# Altium integrated library Analog Devices Data Converters Digital-to-Analog Converters.IntLib: 2231 symbols (part 163 of 181)
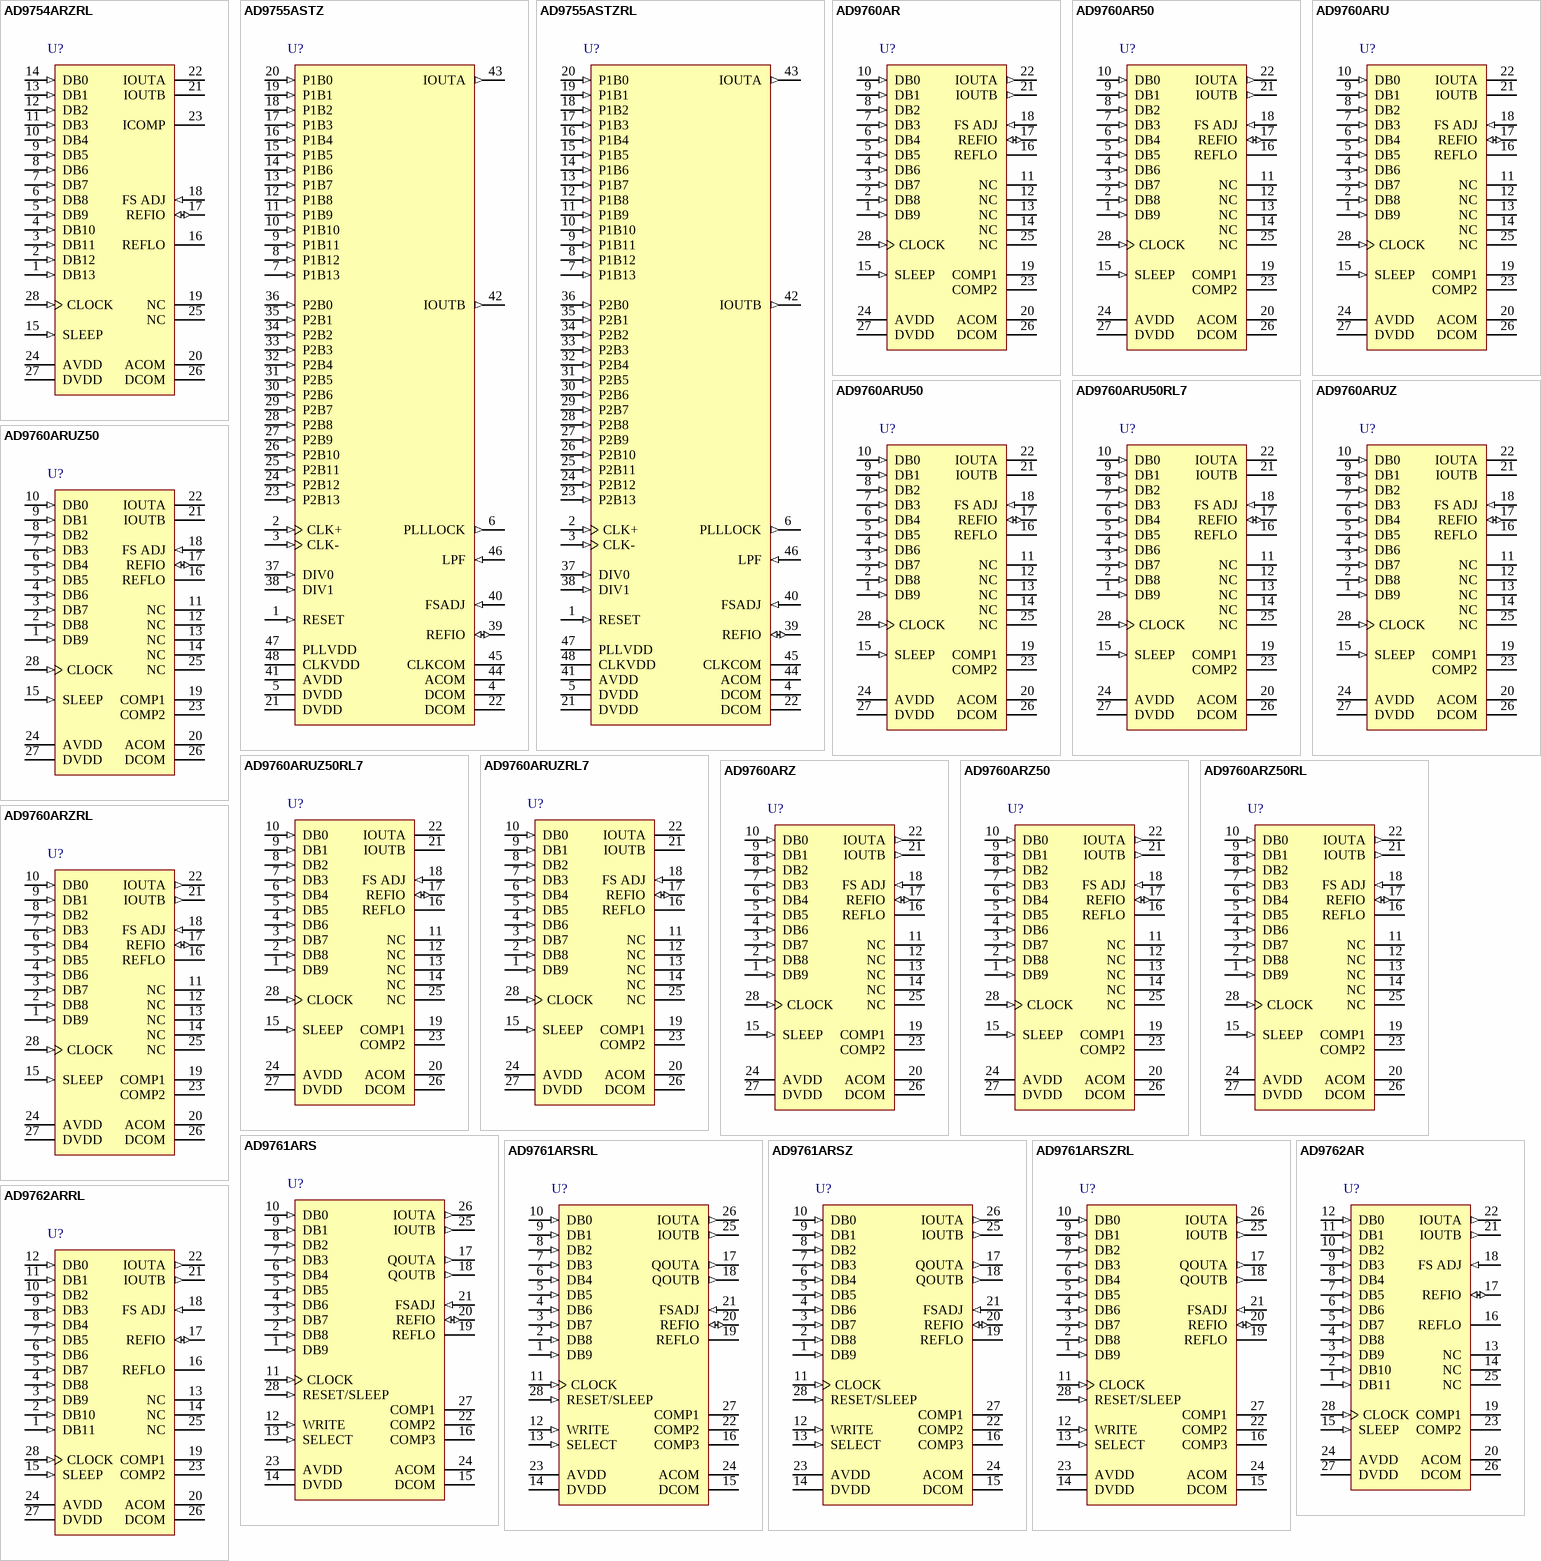
[diagram p276: symbols AD9754ARZRL to AD9762ARRL]

## AD9760ARUZ50RL7
designator U?
Single 10-Bit TxDAC, 125 Msps, -40 to +85 degC, RU-28, Pb-Free, Reel; Generic Part Number: AD9760; Manufacturer: Analog Devices; PartNumber: AD9760ARUZ50RL7; # DAC Outputs: 1; Max V+: 5.5V; Op Pwr Diss: 175mW; Resolution (Bits): 10; Settling Time: 35ns; Single Supply: Yes; DatasheetVersion: Rev.B; PackageVersion: 2005; PackageReference: RU-28; PackageDescription: 28-Lead Thin Shrink Small Outline Package [TSSOP]; Supplier 1: Digi-Key; Supplier Part Number 1: AD9760ARUZ50RL7-ND; Supplier 2: Mouser; Supplier Part Number 2: 584-AD9760ARUZ50R7; Packing: Reel; RoHS: Y; Mounting Technology: Surface Mount; Code_JEDEC: MO-153-AE; ComponentLink1Description: Manufacturer URL; ComponentLink1URL: http://www.analog.com/en/index.html; ComponentLink2Description: Datasheet; ComponentLink2URL: http://www.analog.com/static/imported-files/data_sheets/AD9760.pdf; ComponentLink3Description: Package Specification; ComponentLink3URL: http://www.analog.com/static/imported-files/packages/249854663RU_28.pdf; ComponentLink4Description: Product URL; ComponentLink4URL: http://www.analog.com/en/digital-to-analog-converters/da-converters/ad9760/products/product.html
footprint RU-28_N (TSOP, 28-Leads, Body 9.7x4.4mm, Pitch 0.65mm, IPC Medium Density)
footprint RU-28_L (TSOP, 28-Leads, Body 9.7x4.4mm, Pitch 0.65mm, IPC High Density)
footprint RU-28_M (TSOP, 28-Leads, Body 9.7x4.4mm, Pitch 0.65mm, IPC Low Density)
pins: 1 DB9 (in) "Most Significant Data Bit (MSB).", 2 DB8 (in) "Data Bit 8", 3 DB7 (in) "Data Bit 7", 4 DB6 (in) "Data Bit 6", 5 DB5 (in) "Data Bit 5", 6 DB4 (in) "Data Bit 4", 7 DB3 (in) "Data Bit 3", 8 DB2 (in) "Data Bit 2", 9 DB1 (in) "Data Bit 1", 10 DB0 (in) "Least Significant Data Bit (LSB).", 11 NC "No Internal Connection.", 12 NC "No Internal Connection.", 13 NC "No Internal Connection.", 14 NC "No Internal Connection.", 15 SLEEP (in) "Power-Down Control Input. Active High. Contains active pull-down circuit, thus may be left unterminated if not used.", 16 REFLO "Reference Ground when Internal 1.2 V Reference Used. Connect to AVDD to disable internal reference.", 17 REFIO (io) "Reference Input/Output. Serves as reference input when internal reference disabled (i.e., Tie REFLO to AVDD). Serves as 1.2 V reference output when internal reference activated (i.e., Tie REFLO to ACOM). Requires 0.1 uF (See Datasheet)", 18 FS ADJ (in) "Full-Scale Current Output Adjust.", 19 COMP1 "Bandwidth/Noise Reduction Node. Add 0.1 uF to AVDD for optimum performance.", 20 ACOM (power) "Analog Common.", 21 IOUTB "Complementary DAC Current Output. Full-scale current when all data bits are 0s.", 22 IOUTA "DAC Current Output. Full-scale current when all data bits are 1s.", 23 COMP2 "Internal Bias Node for Switch Driver Circuitry. Decouple to ACOM with 0.1 uF capacitor.", 24 AVDD (power) "Analog Supply Voltage (+2.7 V to +5.5 V).", 25 NC "No Internal Connection.", 26 DCOM (power) "Digital Common.", 27 DVDD (power) "Digital Supply Voltage (+2.7 V to +5.5 V).", 28 CLOCK (in) "Clock Input. Data latched on positive edge of clock."

## AD9760ARUZRL7
designator U?
Single 10-Bit TxDAC, 125 Msps, -40 to +85 degC, RU-28, Pb-Free, Reel; Generic Part Number: AD9760; Manufacturer: Analog Devices; PartNumber: AD9760ARUZRL7; # DAC Outputs: 1; Max V+: 5.5V; Op Pwr Diss: 175mW; Resolution (Bits): 10; Settling Time: 35ns; Single Supply: Yes; DatasheetVersion: Rev.B; PackageVersion: 2005; PackageReference: RU-28; PackageDescription: 28-Lead Thin Shrink Small Outline Package [TSSOP]; Supplier 1: Digi-Key; Supplier Part Number 1: AD9760ARUZRL7-ND; Supplier 2: Mouser; Supplier Part Number 2: 584-AD9760ARUZR7; Packing: Reel; RoHS: Y; Mounting Technology: Surface Mount; Code_JEDEC: MO-153-AE; ComponentLink1Description: Manufacturer URL; ComponentLink1URL: http://www.analog.com/en/index.html; ComponentLink2Description: Datasheet; ComponentLink2URL: http://www.analog.com/static/imported-files/data_sheets/AD9760.pdf; ComponentLink3Description: Package Specification; ComponentLink3URL: http://www.analog.com/static/imported-files/packages/249854663RU_28.pdf; ComponentLink4Description: Product URL; ComponentLink4URL: http://www.analog.com/en/digital-to-analog-converters/da-converters/ad9760/products/product.html
footprint RU-28_N (TSOP, 28-Leads, Body 9.7x4.4mm, Pitch 0.65mm, IPC Medium Density)
footprint RU-28_L (TSOP, 28-Leads, Body 9.7x4.4mm, Pitch 0.65mm, IPC High Density)
footprint RU-28_M (TSOP, 28-Leads, Body 9.7x4.4mm, Pitch 0.65mm, IPC Low Density)
pins: 1 DB9 (in) "Most Significant Data Bit (MSB).", 2 DB8 (in) "Data Bit 8", 3 DB7 (in) "Data Bit 7", 4 DB6 (in) "Data Bit 6", 5 DB5 (in) "Data Bit 5", 6 DB4 (in) "Data Bit 4", 7 DB3 (in) "Data Bit 3", 8 DB2 (in) "Data Bit 2", 9 DB1 (in) "Data Bit 1", 10 DB0 (in) "Least Significant Data Bit (LSB).", 11 NC "No Internal Connection.", 12 NC "No Internal Connection.", 13 NC "No Internal Connection.", 14 NC "No Internal Connection.", 15 SLEEP (in) "Power-Down Control Input. Active High. Contains active pull-down circuit, thus may be left unterminated if not used.", 16 REFLO "Reference Ground when Internal 1.2 V Reference Used. Connect to AVDD to disable internal reference.", 17 REFIO (io) "Reference Input/Output. Serves as reference input when internal reference disabled (i.e., Tie REFLO to AVDD). Serves as 1.2 V reference output when internal reference activated (i.e., Tie REFLO to ACOM). Requires 0.1 uF (See Datasheet)", 18 FS ADJ (in) "Full-Scale Current Output Adjust.", 19 COMP1 "Bandwidth/Noise Reduction Node. Add 0.1 uF to AVDD for optimum performance.", 20 ACOM (power) "Analog Common.", 21 IOUTB "Complementary DAC Current Output. Full-scale current when all data bits are 0s.", 22 IOUTA "DAC Current Output. Full-scale current when all data bits are 1s.", 23 COMP2 "Internal Bias Node for Switch Driver Circuitry. Decouple to ACOM with 0.1 uF capacitor.", 24 AVDD (power) "Analog Supply Voltage (+2.7 V to +5.5 V).", 25 NC "No Internal Connection.", 26 DCOM (power) "Digital Common.", 27 DVDD (power) "Digital Supply Voltage (+2.7 V to +5.5 V).", 28 CLOCK (in) "Clock Input. Data latched on positive edge of clock."

## AD9760ARZ
designator U?
Single 10-Bit TxDAC, 125 Msps, -40 to +85 degC, RW-28, Pb-Free, Tube; Generic Part Number: AD9760; Manufacturer: Analog Devices; PartNumber: AD9760ARZ; # DAC Outputs: 1; Max V+: 5.5V; Op Pwr Diss: 175mW; Resolution (Bits): 10; Settling Time: 35ns; Single Supply: Yes; DatasheetVersion: Rev.B; PackageVersion: 060706-A; PackageReference: RW-28; PackageDescription: 28-Lead Standard Small Outline Package [SOIC_W]; Supplier 1: Digi-Key; Supplier Part Number 1: AD9760ARZ-ND; Supplier 2: Farnell; Supplier Part Number 2: 2305702; Supplier 3: Newark; Supplier Part Number 3: 84W7494; Supplier 4: Newark; Supplier Part Number 4: 13M6207; Supplier 5: Mouser; Supplier Part Number 5: 584-AD9760ARZ; Packing: Tube; RoHS: Y; Mounting Technology: Surface Mount; Code_JEDEC: MS-013-AE; ComponentLink1Description: Manufacturer URL; ComponentLink1URL: http://www.analog.com/en/index.html; ComponentLink2Description: Datasheet; ComponentLink2URL: http://www.analog.com/static/imported-files/data_sheets/AD9760.pdf; ComponentLink3Description: Product URL; ComponentLink3URL: http://www.analog.com/en/digital-to-analog-converters/da-converters/ad9760/products/product.html
footprint RW-28_N (SOIC, 28-Leads, Body 17.9x7.5mm, Pitch 1.27mm, IPC Medium Density)
footprint RW-28_L (SOIC, 28-Leads, Body 17.9x7.5mm, Pitch 1.27mm, IPC High Density)
footprint RW-28_M (SOIC, 28-Leads, Body 17.9x7.5mm, Pitch 1.27mm, IPC Low Density)
pins: 1 DB9 (in) "Most Significant Data Bit (MSB).", 2 DB8 (in) "Data Bit.", 3 DB7 (in) "Data Bit.", 4 DB6 (in) "Data Bit.", 5 DB5 (in) "Data Bit.", 6 DB4 (in) "Data Bit.", 7 DB3 (in) "Data Bit.", 8 DB2 (in) "Data Bit.", 9 DB1 (in) "Data Bit.", 10 DB0 (in) "Least Significant Data Bit (LSB).", 11 NC "No Internal Connection.", 12 NC "No Internal Connection.", 13 NC "No Internal Connection.", 14 NC "No Internal Connection.", 15 SLEEP (in) "Power-Down Control Input. Active High. Contains active pull-down circuit, thus may be left unterminated if not used.", 16 REFLO "Reference Ground when Internal 1.2 V Reference Used. Connect to AVDD to disable internal reference.", 17 REFIO (io) "Reference Input/Output. Serves as reference input when internal reference disabled (i.e., Tie REFLO to AVDD). Serves as 1.2 V reference output when internal reference activated (i.e., Tie REFLO to ACOM). Requires 0.1 µF (See Datasheet)", 18 FS ADJ (in) "Full-Scale Current Output Adjust.", 19 COMP1 "Bandwidth/Noise Reduction Node. Add 0.1 µF to AVDD for optimum performance.", 20 ACOM (power) "Analog Common.", 21 IOUTB (out) "Complementary DAC Current Output. Full-scale current when all data bits are 0s.", 22 IOUTA (out) "DAC Current Output. Full-scale current when all data bits are 1s.", 23 COMP2 "Internal Bias Node for Switch Driver Circuitry. Decouple to ACOM with 0.1 µF capacitor.", 24 AVDD (power) "Analog Supply Voltage (+2.7 V to +5.5 V).", 25 NC "No Internal Connection.", 26 DCOM (power) "Digital Common.", 27 DVDD (power) "Digital Supply Voltage (+2.7 V to +5.5 V).", 28 CLOCK (in) "Clock Input.  Data latched on positive edge of clock."

## AD9760ARZ50
designator U?
Single 10-Bit TxDAC, 125 Msps, -40 to +85 degC, RW-28, Pb-Free, Tube; Generic Part Number: AD9760; Manufacturer: Analog Devices; PartNumber: AD9760ARZ50; # DAC Outputs: 1; Max V+: 5.5V; Op Pwr Diss: 175mW; Resolution (Bits): 10; Settling Time: 35ns; Single Supply: Yes; DatasheetVersion: Rev.B; PackageVersion: 060706-A; PackageReference: RW-28; PackageDescription: 28-Lead Standard Small Outline Package [SOIC_W]; Supplier 1: Digi-Key; Supplier Part Number 1: AD9760ARZ50-ND; Supplier 2: Mouser; Supplier Part Number 2: 584-AD9760ARZ50; Packing: Tube; RoHS: Y; Mounting Technology: Surface Mount; Code_JEDEC: MS-013-AE; ComponentLink1Description: Manufacturer URL; ComponentLink1URL: http://www.analog.com/en/index.html; ComponentLink2Description: Datasheet; ComponentLink2URL: http://www.analog.com/static/imported-files/data_sheets/AD9760.pdf; ComponentLink3Description: Product URL; ComponentLink3URL: http://www.analog.com/en/digital-to-analog-converters/da-converters/ad9760/products/product.html
footprint RW-28_N (SOIC, 28-Leads, Body 17.9x7.5mm, Pitch 1.27mm, IPC Medium Density)
footprint RW-28_L (SOIC, 28-Leads, Body 17.9x7.5mm, Pitch 1.27mm, IPC High Density)
footprint RW-28_M (SOIC, 28-Leads, Body 17.9x7.5mm, Pitch 1.27mm, IPC Low Density)
pins: 1 DB9 (in) "Most Significant Data Bit (MSB).", 2 DB8 (in) "Data Bit.", 3 DB7 (in) "Data Bit.", 4 DB6 (in) "Data Bit.", 5 DB5 (in) "Data Bit.", 6 DB4 (in) "Data Bit.", 7 DB3 (in) "Data Bit.", 8 DB2 (in) "Data Bit.", 9 DB1 (in) "Data Bit.", 10 DB0 (in) "Least Significant Data Bit (LSB).", 11 NC "No Internal Connection.", 12 NC "No Internal Connection.", 13 NC "No Internal Connection.", 14 NC "No Internal Connection.", 15 SLEEP (in) "Power-Down Control Input. Active High. Contains active pull-down circuit, thus may be left unterminated if not used.", 16 REFLO "Reference Ground when Internal 1.2 V Reference Used. Connect to AVDD to disable internal reference.", 17 REFIO (io) "Reference Input/Output. Serves as reference input when internal reference disabled (i.e., Tie REFLO to AVDD). Serves as 1.2 V reference output when internal reference activated (i.e., Tie REFLO to ACOM). Requires 0.1 µF (See Datasheet)", 18 FS ADJ (in) "Full-Scale Current Output Adjust.", 19 COMP1 "Bandwidth/Noise Reduction Node. Add 0.1 µF to AVDD for optimum performance.", 20 ACOM (power) "Analog Common.", 21 IOUTB (out) "Complementary DAC Current Output. Full-scale current when all data bits are 0s.", 22 IOUTA (out) "DAC Current Output. Full-scale current when all data bits are 1s.", 23 COMP2 "Internal Bias Node for Switch Driver Circuitry. Decouple to ACOM with 0.1 µF capacitor.", 24 AVDD (power) "Analog Supply Voltage (+2.7 V to +5.5 V).", 25 NC "No Internal Connection.", 26 DCOM (power) "Digital Common.", 27 DVDD (power) "Digital Supply Voltage (+2.7 V to +5.5 V).", 28 CLOCK (in) "Clock Input.  Data latched on positive edge of clock."

## AD9760ARZ50RL
designator U?
Single 10-Bit TxDAC, 125 Msps, -40 to +85 degC, RW-28, Pb-Free, Reel; Generic Part Number: AD9760; Manufacturer: Analog Devices; PartNumber: AD9760ARZ50RL; # DAC Outputs: 1; Max V+: 5.5V; Op Pwr Diss: 175mW; Resolution (Bits): 10; Settling Time: 35ns; Single Supply: Yes; DatasheetVersion: Rev.B; PackageVersion: 060706-A; PackageReference: RW-28; PackageDescription: 28-Lead Standard Small Outline Package [SOIC_W]; Supplier 1: Digi-Key; Supplier Part Number 1: AD9760ARZ50RLTR-ND; Supplier 2: Digi-Key; Supplier Part Number 2: AD9760ARZ50RLCT-ND; Supplier 3: Digi-Key; Supplier Part Number 3: AD9760ARZ50RLDKR-ND; Supplier 4: Mouser; Supplier Part Number 4: 584-AD9760ARZ50R; Packing: Reel; RoHS: Y; Mounting Technology: Surface Mount; Code_JEDEC: MS-013-AE; ComponentLink1Description: Manufacturer URL; ComponentLink1URL: http://www.analog.com/en/index.html; ComponentLink2Description: Datasheet; ComponentLink2URL: http://www.analog.com/static/imported-files/data_sheets/AD9760.pdf; ComponentLink3Description: Product URL; ComponentLink3URL: http://www.analog.com/en/digital-to-analog-converters/da-converters/ad9760/products/product.html
footprint RW-28_N (SOIC, 28-Leads, Body 17.9x7.5mm, Pitch 1.27mm, IPC Medium Density)
footprint RW-28_L (SOIC, 28-Leads, Body 17.9x7.5mm, Pitch 1.27mm, IPC High Density)
footprint RW-28_M (SOIC, 28-Leads, Body 17.9x7.5mm, Pitch 1.27mm, IPC Low Density)
pins: 1 DB9 (in) "Most Significant Data Bit (MSB).", 2 DB8 (in) "Data Bit.", 3 DB7 (in) "Data Bit.", 4 DB6 (in) "Data Bit.", 5 DB5 (in) "Data Bit.", 6 DB4 (in) "Data Bit.", 7 DB3 (in) "Data Bit.", 8 DB2 (in) "Data Bit.", 9 DB1 (in) "Data Bit.", 10 DB0 (in) "Least Significant Data Bit (LSB).", 11 NC "No Internal Connection.", 12 NC "No Internal Connection.", 13 NC "No Internal Connection.", 14 NC "No Internal Connection.", 15 SLEEP (in) "Power-Down Control Input. Active High. Contains active pull-down circuit, thus may be left unterminated if not used.", 16 REFLO "Reference Ground when Internal 1.2 V Reference Used. Connect to AVDD to disable internal reference.", 17 REFIO (io) "Reference Input/Output. Serves as reference input when internal reference disabled (i.e., Tie REFLO to AVDD). Serves as 1.2 V reference output when internal reference activated (i.e., Tie REFLO to ACOM). Requires 0.1 µF (See Datasheet)", 18 FS ADJ (in) "Full-Scale Current Output Adjust.", 19 COMP1 "Bandwidth/Noise Reduction Node. Add 0.1 µF to AVDD for optimum performance.", 20 ACOM (power) "Analog Common.", 21 IOUTB (out) "Complementary DAC Current Output. Full-scale current when all data bits are 0s.", 22 IOUTA (out) "DAC Current Output. Full-scale current when all data bits are 1s.", 23 COMP2 "Internal Bias Node for Switch Driver Circuitry. Decouple to ACOM with 0.1 µF capacitor.", 24 AVDD (power) "Analog Supply Voltage (+2.7 V to +5.5 V).", 25 NC "No Internal Connection.", 26 DCOM (power) "Digital Common.", 27 DVDD (power) "Digital Supply Voltage (+2.7 V to +5.5 V).", 28 CLOCK (in) "Clock Input.  Data latched on positive edge of clock."

## AD9760ARZRL
designator U?
Single 10-Bit TxDAC, 125 Msps, -40 to +85 degC, RW-28, Pb-Free, Reel; Generic Part Number: AD9760; Manufacturer: Analog Devices; PartNumber: AD9760ARZRL; # DAC Outputs: 1; Max V+: 5.5V; Op Pwr Diss: 175mW; Resolution (Bits): 10; Settling Time: 35ns; Single Supply: Yes; DatasheetVersion: Rev.B; PackageVersion: 060706-A; PackageReference: RW-28; PackageDescription: 28-Lead Standard Small Outline Package [SOIC_W]; Supplier 1: Digi-Key; Supplier Part Number 1: AD9760ARZRL-ND; Supplier 2: Newark; Supplier Part Number 2: 87K0198; Supplier 3: Mouser; Supplier Part Number 3: 584-AD9760ARZR; Packing: Reel; RoHS: Y; Mounting Technology: Surface Mount; Code_JEDEC: MS-013-AE; ComponentLink1Description: Manufacturer URL; ComponentLink1URL: http://www.analog.com/en/index.html; ComponentLink2Description: Datasheet; ComponentLink2URL: http://www.analog.com/static/imported-files/data_sheets/AD9760.pdf; ComponentLink3Description: Product URL; ComponentLink3URL: http://www.analog.com/en/digital-to-analog-converters/da-converters/ad9760/products/product.html
footprint RW-28_N (SOIC, 28-Leads, Body 17.9x7.5mm, Pitch 1.27mm, IPC Medium Density)
footprint RW-28_L (SOIC, 28-Leads, Body 17.9x7.5mm, Pitch 1.27mm, IPC High Density)
footprint RW-28_M (SOIC, 28-Leads, Body 17.9x7.5mm, Pitch 1.27mm, IPC Low Density)
pins: 1 DB9 (in) "Most Significant Data Bit (MSB).", 2 DB8 (in) "Data Bit.", 3 DB7 (in) "Data Bit.", 4 DB6 (in) "Data Bit.", 5 DB5 (in) "Data Bit.", 6 DB4 (in) "Data Bit.", 7 DB3 (in) "Data Bit.", 8 DB2 (in) "Data Bit.", 9 DB1 (in) "Data Bit.", 10 DB0 (in) "Least Significant Data Bit (LSB).", 11 NC "No Internal Connection.", 12 NC "No Internal Connection.", 13 NC "No Internal Connection.", 14 NC "No Internal Connection.", 15 SLEEP (in) "Power-Down Control Input. Active High. Contains active pull-down circuit, thus may be left unterminated if not used.", 16 REFLO "Reference Ground when Internal 1.2 V Reference Used. Connect to AVDD to disable internal reference.", 17 REFIO (io) "Reference Input/Output. Serves as reference input when internal reference disabled (i.e., Tie REFLO to AVDD). Serves as 1.2 V reference output when internal reference activated (i.e., Tie REFLO to ACOM). Requires 0.1 µF (See Datasheet)", 18 FS ADJ (in) "Full-Scale Current Output Adjust.", 19 COMP1 "Bandwidth/Noise Reduction Node. Add 0.1 µF to AVDD for optimum performance.", 20 ACOM (power) "Analog Common.", 21 IOUTB (out) "Complementary DAC Current Output. Full-scale current when all data bits are 0s.", 22 IOUTA (out) "DAC Current Output. Full-scale current when all data bits are 1s.", 23 COMP2 "Internal Bias Node for Switch Driver Circuitry. Decouple to ACOM with 0.1 µF capacitor.", 24 AVDD (power) "Analog Supply Voltage (+2.7 V to +5.5 V).", 25 NC "No Internal Connection.", 26 DCOM (power) "Digital Common.", 27 DVDD (power) "Digital Supply Voltage (+2.7 V to +5.5 V).", 28 CLOCK (in) "Clock Input.  Data latched on positive edge of clock."

## AD9761ARS
designator U?
Dual 10-Bit TxDAC+ with 2x Interpolation Filter, -40 to +85 degC, RS-28, Tube; Generic Part Number: AD9761; Manufacturer: Analog Devices; PartNumber: AD9761ARS; # DAC Outputs: 2; Max V+: 5.5V; Op Pwr Diss: 250mW; Resolution (Bits): 10; Settling Time: 35ns; Single Supply: Yes; DatasheetVersion: Rev.C; PackageVersion: 060106-A; PackageReference: RS-28; PackageDescription: 28-Lead Shrink Small Outline Package [SSOP]; Supplier 1: Digi-Key; Supplier Part Number 1: AD9761ARS-ND; Supplier 2: Mouser; Supplier Part Number 2: 584-AD9761ARS; Packing: Tube; RoHS: N; Mounting Technology: Surface Mount; Code_JEDEC: MO-150-AH; ComponentLink1Description: Manufacturer URL; ComponentLink1URL: http://www.analog.com/en/index.html; ComponentLink2Description: Datasheet; ComponentLink2URL: http://www.analog.com/static/imported-files/data_sheets/AD9761.pdf; ComponentLink3Description: Package Specification; ComponentLink3URL: http://www.analog.com/static/imported-files/packages/32122249223724RS_28.pdf; ComponentLink4Description: Product URL; ComponentLink4URL: http://www.analog.com/en/digital-to-analog-converters/da-converters/ad9761/products/product.html
footprint RS-28_N (SOP, 28-Leads, Body 10.2x5.3mm, Pitch 0.65mm, IPC Medium Density)
footprint RS-28_L (SOP, 28-Leads, Body 10.2x5.3mm, Pitch 0.65mm, IPC High Density)
footprint RS-28_M (SOP, 28-Leads, Body 10.2x5.3mm, Pitch 0.65mm, IPC Low Density)
pins: 1 DB9 (in) "Most Significant Data Bit (MSB).", 2 DB8 (in) "Data Bit 8.", 3 DB7 (in) "Data Bit 7.", 4 DB6 (in) "Data Bit 6.", 5 DB5 (in) "Data Bit 5.", 6 DB4 (in) "Data Bit 4.", 7 DB3 (in) "Data Bit 3.", 8 DB2 (in) "Data Bit 2.", 9 DB1 (in) "Data Bit 1.", 10 DB0 (in) "Least Significant Data Bit (LSB).", 11 CLOCK (in) "Clock Input. Both DACs’ outputs updated on positive edge of clock and digital filters read respective input registers.", 12 WRITE (in) "Write Input. DAC input registers latched on positive edge of write.", 13 SELECT (in) "Select Input. Select high routes input data to I DAC; select low routes data to Q DAC.", 14 DVDD (power) "Digital Supply Voltage (2.7 V to 5.5 V).", 15 DCOM (power) "Digital Common.", 16 COMP3 "Internal Bias Node for Switch Driver Circuitry. Decouple to ACOM with 0.1 uF capacitor.", 17 QOUTA (out) "Q DAC Current Output. Full-scale current when all data bits are 1s.", 18 QOUTB (out) "Q DAC Complementary Current Output. Full-scale current when all data bits are 0s.", 19 REFLO "Reference Ground when Internal 1.2 V Reference Used. Connect to AVDD to disable internal reference.", 20 REFIO (io) "Reference Input/Output. Serves as reference input when internal reference disabled. Serves as 1.2 V reference output when internal reference activated. Requires 0.1 uF capacitor to ACOM when internal reference activated", 21 FSADJ (in) "Full-Scale Current Output Adjust. Resistance to ACOM sets full-scale output current.", 22 COMP2 "Bandwidth/Noise Reduction Node. Add 0.1 uF to AVDD for optimum performance.", 23 AVDD (power) "Analog Supply Voltage (3 V to 5.5 V).", 24 ACOM (power) "Analog Common.", 25 IOUTB (out) "I DAC Complementary Current Output. Full-scale current when all data bits are 0s.", 26 IOUTA (out) "I DAC Current Output. Full-scale current when all data bits are 1s.", 27 COMP1 "Internal Bias Node for Switch Driver Circuitry. Decouple to AGND with 0.1 uF capacitor.", 28 RESET/SLEEP (in) "Power-Down Control Input if Asserted for Four Clock Cycles or Longer. Reset control input if asserted for less than four clock cycles. Active high. Connect to DCOM if not used. Refer to RESET/ SLEEP Mode Operation section."

## AD9761ARSRL
designator U?
Dual 10-Bit TxDAC+ with 2x Interpolation Filter, -40 to +85 degC, RS-28, Reel; Generic Part Number: AD9761; Manufacturer: Analog Devices; PartNumber: AD9761ARSRL; # DAC Outputs: 2; Max V+: 5.5V; Op Pwr Diss: 250mW; Resolution (Bits): 10; Settling Time: 35ns; Single Supply: Yes; DatasheetVersion: Rev.C; PackageVersion: 060106-A; PackageReference: RS-28; PackageDescription: 28-Lead Shrink Small Outline Package [SSOP]; Supplier 1: Digi-Key; Supplier Part Number 1: AD9761ARSRL-ND; Supplier 2: Mouser; Supplier Part Number 2: 584-AD9761ARSR; Packing: Reel; RoHS: N; Mounting Technology: Surface Mount; Code_JEDEC: MO-150-AH; ComponentLink1Description: Manufacturer URL; ComponentLink1URL: http://www.analog.com/en/index.html; ComponentLink2Description: Datasheet; ComponentLink2URL: http://www.analog.com/static/imported-files/data_sheets/AD9761.pdf; ComponentLink3Description: Package Specification; ComponentLink3URL: http://www.analog.com/static/imported-files/packages/32122249223724RS_28.pdf; ComponentLink4Description: Product URL; ComponentLink4URL: http://www.analog.com/en/digital-to-analog-converters/da-converters/ad9761/products/product.html
footprint RS-28_N (SOP, 28-Leads, Body 10.2x5.3mm, Pitch 0.65mm, IPC Medium Density)
footprint RS-28_L (SOP, 28-Leads, Body 10.2x5.3mm, Pitch 0.65mm, IPC High Density)
footprint RS-28_M (SOP, 28-Leads, Body 10.2x5.3mm, Pitch 0.65mm, IPC Low Density)
pins: 1 DB9 (in) "Most Significant Data Bit (MSB).", 2 DB8 (in) "Data Bit 8.", 3 DB7 (in) "Data Bit 7.", 4 DB6 (in) "Data Bit 6.", 5 DB5 (in) "Data Bit 5.", 6 DB4 (in) "Data Bit 4.", 7 DB3 (in) "Data Bit 3.", 8 DB2 (in) "Data Bit 2.", 9 DB1 (in) "Data Bit 1.", 10 DB0 (in) "Least Significant Data Bit (LSB).", 11 CLOCK (in) "Clock Input. Both DACs’ outputs updated on positive edge of clock and digital filters read respective input registers.", 12 WRITE (in) "Write Input. DAC input registers latched on positive edge of write.", 13 SELECT (in) "Select Input. Select high routes input data to I DAC; select low routes data to Q DAC.", 14 DVDD (power) "Digital Supply Voltage (2.7 V to 5.5 V).", 15 DCOM (power) "Digital Common.", 16 COMP3 "Internal Bias Node for Switch Driver Circuitry. Decouple to ACOM with 0.1 uF capacitor.", 17 QOUTA (out) "Q DAC Current Output. Full-scale current when all data bits are 1s.", 18 QOUTB (out) "Q DAC Complementary Current Output. Full-scale current when all data bits are 0s.", 19 REFLO "Reference Ground when Internal 1.2 V Reference Used. Connect to AVDD to disable internal reference.", 20 REFIO (io) "Reference Input/Output. Serves as reference input when internal reference disabled. Serves as 1.2 V reference output when internal reference activated. Requires 0.1 uF capacitor to ACOM when internal reference activated", 21 FSADJ (in) "Full-Scale Current Output Adjust. Resistance to ACOM sets full-scale output current.", 22 COMP2 "Bandwidth/Noise Reduction Node. Add 0.1 uF to AVDD for optimum performance.", 23 AVDD (power) "Analog Supply Voltage (3 V to 5.5 V).", 24 ACOM (power) "Analog Common.", 25 IOUTB (out) "I DAC Complementary Current Output. Full-scale current when all data bits are 0s.", 26 IOUTA (out) "I DAC Current Output. Full-scale current when all data bits are 1s.", 27 COMP1 "Internal Bias Node for Switch Driver Circuitry. Decouple to AGND with 0.1 uF capacitor.", 28 RESET/SLEEP (in) "Power-Down Control Input if Asserted for Four Clock Cycles or Longer. Reset control input if asserted for less than four clock cycles. Active high. Connect to DCOM if not used. Refer to RESET/ SLEEP Mode Operation section."

## AD9761ARSZ
designator U?
Dual 10-Bit TxDAC+ with 2x Interpolation Filter, -40 to +85 degC, RS-28, Pb-Free, Tube; Generic Part Number: AD9761; Manufacturer: Analog Devices; PartNumber: AD9761ARSZ; # DAC Outputs: 2; Max V+: 5.5V; Op Pwr Diss: 250mW; Resolution (Bits): 10; Settling Time: 35ns; Single Supply: Yes; DatasheetVersion: Rev.C; PackageVersion: 060106-A; PackageReference: RS-28; PackageDescription: 28-Lead Shrink Small Outline Package [SSOP]; Supplier 1: Digi-Key; Supplier Part Number 1: AD9761ARSZ-ND; Supplier 2: Farnell; Supplier Part Number 2: 9425632; Supplier 3: Newark; Supplier Part Number 3: 59K7397; Supplier 4: Mouser; Supplier Part Number 4: 584-AD9761ARSZ; Packing: Tube; RoHS: Y; Mounting Technology: Surface Mount; Code_JEDEC: MO-150-AH; ComponentLink1Description: Manufacturer URL; ComponentLink1URL: http://www.analog.com/en/index.html; ComponentLink2Description: Datasheet; ComponentLink2URL: http://www.analog.com/static/imported-files/data_sheets/AD9761.pdf; ComponentLink3Description: Package Specification; ComponentLink3URL: http://www.analog.com/static/imported-files/packages/32122249223724RS_28.pdf; ComponentLink4Description: Product URL; ComponentLink4URL: http://www.analog.com/en/digital-to-analog-converters/da-converters/ad9761/products/product.html
footprint RS-28_N (SOP, 28-Leads, Body 10.2x5.3mm, Pitch 0.65mm, IPC Medium Density)
footprint RS-28_L (SOP, 28-Leads, Body 10.2x5.3mm, Pitch 0.65mm, IPC High Density)
footprint RS-28_M (SOP, 28-Leads, Body 10.2x5.3mm, Pitch 0.65mm, IPC Low Density)
pins: 1 DB9 (in) "Most Significant Data Bit (MSB).", 2 DB8 (in) "Data Bit 8.", 3 DB7 (in) "Data Bit 7.", 4 DB6 (in) "Data Bit 6.", 5 DB5 (in) "Data Bit 5.", 6 DB4 (in) "Data Bit 4.", 7 DB3 (in) "Data Bit 3.", 8 DB2 (in) "Data Bit 2.", 9 DB1 (in) "Data Bit 1.", 10 DB0 (in) "Least Significant Data Bit (LSB).", 11 CLOCK (in) "Clock Input. Both DACs’ outputs updated on positive edge of clock and digital filters read respective input registers.", 12 WRITE (in) "Write Input. DAC input registers latched on positive edge of write.", 13 SELECT (in) "Select Input. Select high routes input data to I DAC; select low routes data to Q DAC.", 14 DVDD (power) "Digital Supply Voltage (2.7 V to 5.5 V).", 15 DCOM (power) "Digital Common.", 16 COMP3 "Internal Bias Node for Switch Driver Circuitry. Decouple to ACOM with 0.1 uF capacitor.", 17 QOUTA (out) "Q DAC Current Output. Full-scale current when all data bits are 1s.", 18 QOUTB (out) "Q DAC Complementary Current Output. Full-scale current when all data bits are 0s.", 19 REFLO "Reference Ground when Internal 1.2 V Reference Used. Connect to AVDD to disable internal reference.", 20 REFIO (io) "Reference Input/Output. Serves as reference input when internal reference disabled. Serves as 1.2 V reference output when internal reference activated. Requires 0.1 uF capacitor to ACOM when internal reference activated", 21 FSADJ (in) "Full-Scale Current Output Adjust. Resistance to ACOM sets full-scale output current.", 22 COMP2 "Bandwidth/Noise Reduction Node. Add 0.1 uF to AVDD for optimum performance.", 23 AVDD (power) "Analog Supply Voltage (3 V to 5.5 V).", 24 ACOM (power) "Analog Common.", 25 IOUTB (out) "I DAC Complementary Current Output. Full-scale current when all data bits are 0s.", 26 IOUTA (out) "I DAC Current Output. Full-scale current when all data bits are 1s.", 27 COMP1 "Internal Bias Node for Switch Driver Circuitry. Decouple to AGND with 0.1 uF capacitor.", 28 RESET/SLEEP (in) "Power-Down Control Input if Asserted for Four Clock Cycles or Longer. Reset control input if asserted for less than four clock cycles. Active high. Connect to DCOM if not used. Refer to RESET/ SLEEP Mode Operation section."

## AD9761ARSZRL
designator U?
Dual 10-Bit TxDAC+ with 2x Interpolation Filter, -40 to +85 degC, RS-28, Pb-Free, Reel; Generic Part Number: AD9761; Manufacturer: Analog Devices; PartNumber: AD9761ARSZRL; # DAC Outputs: 2; Max V+: 5.5V; Op Pwr Diss: 250mW; Resolution (Bits): 10; Settling Time: 35ns; Single Supply: Yes; DatasheetVersion: Rev.C; PackageVersion: 060106-A; PackageReference: RS-28; PackageDescription: 28-Lead Shrink Small Outline Package [SSOP]; Supplier 1: Digi-Key; Supplier Part Number 1: AD9761ARSZRL-ND; Supplier 2: Mouser; Supplier Part Number 2: 584-AD9761ARSZR; Packing: Reel; RoHS: Y; Mounting Technology: Surface Mount; Code_JEDEC: MO-150-AH; ComponentLink1Description: Manufacturer URL; ComponentLink1URL: http://www.analog.com/en/index.html; ComponentLink2Description: Datasheet; ComponentLink2URL: http://www.analog.com/static/imported-files/data_sheets/AD9761.pdf; ComponentLink3Description: Package Specification; ComponentLink3URL: http://www.analog.com/static/imported-files/packages/32122249223724RS_28.pdf; ComponentLink4Description: Product URL; ComponentLink4URL: http://www.analog.com/en/digital-to-analog-converters/da-converters/ad9761/products/product.html
footprint RS-28_N (SOP, 28-Leads, Body 10.2x5.3mm, Pitch 0.65mm, IPC Medium Density)
footprint RS-28_L (SOP, 28-Leads, Body 10.2x5.3mm, Pitch 0.65mm, IPC High Density)
footprint RS-28_M (SOP, 28-Leads, Body 10.2x5.3mm, Pitch 0.65mm, IPC Low Density)
pins: 1 DB9 (in) "Most Significant Data Bit (MSB).", 2 DB8 (in) "Data Bit 8.", 3 DB7 (in) "Data Bit 7.", 4 DB6 (in) "Data Bit 6.", 5 DB5 (in) "Data Bit 5.", 6 DB4 (in) "Data Bit 4.", 7 DB3 (in) "Data Bit 3.", 8 DB2 (in) "Data Bit 2.", 9 DB1 (in) "Data Bit 1.", 10 DB0 (in) "Least Significant Data Bit (LSB).", 11 CLOCK (in) "Clock Input. Both DACs’ outputs updated on positive edge of clock and digital filters read respective input registers.", 12 WRITE (in) "Write Input. DAC input registers latched on positive edge of write.", 13 SELECT (in) "Select Input. Select high routes input data to I DAC; select low routes data to Q DAC.", 14 DVDD (power) "Digital Supply Voltage (2.7 V to 5.5 V).", 15 DCOM (power) "Digital Common.", 16 COMP3 "Internal Bias Node for Switch Driver Circuitry. Decouple to ACOM with 0.1 uF capacitor.", 17 QOUTA (out) "Q DAC Current Output. Full-scale current when all data bits are 1s.", 18 QOUTB (out) "Q DAC Complementary Current Output. Full-scale current when all data bits are 0s.", 19 REFLO "Reference Ground when Internal 1.2 V Reference Used. Connect to AVDD to disable internal reference.", 20 REFIO (io) "Reference Input/Output. Serves as reference input when internal reference disabled. Serves as 1.2 V reference output when internal reference activated. Requires 0.1 uF capacitor to ACOM when internal reference activated", 21 FSADJ (in) "Full-Scale Current Output Adjust. Resistance to ACOM sets full-scale output current.", 22 COMP2 "Bandwidth/Noise Reduction Node. Add 0.1 uF to AVDD for optimum performance.", 23 AVDD (power) "Analog Supply Voltage (3 V to 5.5 V).", 24 ACOM (power) "Analog Common.", 25 IOUTB (out) "I DAC Complementary Current Output. Full-scale current when all data bits are 0s.", 26 IOUTA (out) "I DAC Current Output. Full-scale current when all data bits are 1s.", 27 COMP1 "Internal Bias Node for Switch Driver Circuitry. Decouple to AGND with 0.1 uF capacitor.", 28 RESET/SLEEP (in) "Power-Down Control Input if Asserted for Four Clock Cycles or Longer. Reset control input if asserted for less than four clock cycles. Active high. Connect to DCOM if not used. Refer to RESET/ SLEEP Mode Operation section."

## AD9762AR
designator U?
Single 12-Bit TxDAC, 125 Msps, -40 to +85 degC, RW-28, Tube; Generic Part Number: AD9762; Manufacturer: Analog Devices; PartNumber: AD9762AR; # DAC Outputs: 1; Max V+: 5.5V; Op Pwr Diss: 160mW; Resolution (Bits): 12; Settling Time: 35ns; Single Supply: Yes; DatasheetVersion: Rev.B; PackageVersion: 060706-A; PackageReference: RW-28; PackageDescription: 28-Lead Standard Small Outline Package [SOIC_W]; Supplier 1: Digi-Key; Supplier Part Number 1: AD9762AR-ND; Supplier 2: Mouser; Supplier Part Number 2: 584-AD9762AR; Packing: Tube; RoHS: N; Mounting Technology: Surface Mount; Code_JEDEC: MS-013-AE; ComponentLink1Description: Manufacturer URL; ComponentLink1URL: http://www.analog.com/en/index.html; ComponentLink2Description: Datasheet; ComponentLink2URL: http://www.analog.com/static/imported-files/data_sheets/AD9762.pdf; ComponentLink3Description: Product URL; ComponentLink3URL: http://www.analog.com/en/digital-to-analog-converters/da-converters/ad9762/products/product.html
footprint RW-28_N (SOIC, 28-Leads, Body 17.9x7.5mm, Pitch 1.27mm, IPC Medium Density)
footprint RW-28_L (SOIC, 28-Leads, Body 17.9x7.5mm, Pitch 1.27mm, IPC High Density)
footprint RW-28_M (SOIC, 28-Leads, Body 17.9x7.5mm, Pitch 1.27mm, IPC Low Density)
pins: 1 DB11 (in) "Most Significant Data Bit (MSB).", 2 DB10 (in) "Data Bit 10", 3 DB9 (in) "Data Bit 9", 4 DB8 (in) "Data Bit 8", 5 DB7 (in) "Data Bit 7", 6 DB6 (in) "Data Bit 6", 7 DB5 (in) "Data Bit 5", 8 DB4 (in) "Data Bit 4", 9 DB3 (in) "Data Bit 3", 10 DB2 (in) "Data Bit 2", 11 DB1 (in) "Data Bit 1", 12 DB0 (in) "Least Significant Data Bit (LSB).", 13 NC "No Internal Connection.", 14 NC "No Internal Connection.", 15 SLEEP (in) "Power-down Control Input. Active High. Contains active pull-down circuit, thus may be left unterminated if not used.", 16 REFLO "Reference Ground when Internal 1.2 V Reference Used. Connect to AVDD to disable internal reference.", 17 REFIO (io) "Reference Input/Output. Serves as reference input when internal reference disabled (i.e., Tie REFLO to AVDD). Serves as 1.2 V reference output when internal reference activated (i.e., Tie REFLO to ACOM). Requires 0.1 uF (See Datasheet)", 18 FS ADJ (in) "Full-Scale Current Output Adjust.", 19 COMP1 "Bandwidth / Noise Reduction Node. Add 0.1 uF to AVDD for optimum performance.", 20 ACOM (power) "Analog Common.", 21 IOUTB (out) "Complementary DAC Current Output. Full-scale current when all data bits are 0s.", 22 IOUTA (out) "DAC Current Output. Full-scale current when all data bits are 1s.", 23 COMP2 "Internal Bias Node for Switch Driver Circuitry. Decouple to ACOM with 0.1 uF capacitor.", 24 AVDD (power) "Analog Supply Voltage (+2.7 V to +5.5 V).", 25 NC "No Internal Connection.", 26 DCOM (power) "Digital Common.", 27 DVDD (power) "Digital Supply Voltage (+2.7 V to +5.5 V).", 28 CLOCK (in) "Clock Input. Data latched on positive edge of clock."

## AD9762ARRL
designator U?
Single 12-Bit TxDAC, 125 Msps, -40 to +85 degC, RW-28, Reel; Generic Part Number: AD9762; Manufacturer: Analog Devices; PartNumber: AD9762ARRL; # DAC Outputs: 1; Max V+: 5.5V; Op Pwr Diss: 160mW; Resolution (Bits): 12; Settling Time: 35ns; Single Supply: Yes; DatasheetVersion: Rev.B; PackageVersion: 060706-A; PackageReference: RW-28; PackageDescription: 28-Lead Standard Small Outline Package [SOIC_W]; Supplier 1: Digi-Key; Supplier Part Number 1: AD9762ARRL-ND; Supplier 2: Mouser; Supplier Part Number 2: 584-AD9762ARR; Packing: Reel; RoHS: N; Mounting Technology: Surface Mount; Code_JEDEC: MS-013-AE; ComponentLink1Description: Manufacturer URL; ComponentLink1URL: http://www.analog.com/en/index.html; ComponentLink2Description: Datasheet; ComponentLink2URL: http://www.analog.com/static/imported-files/data_sheets/AD9762.pdf; ComponentLink3Description: Product URL; ComponentLink3URL: http://www.analog.com/en/digital-to-analog-converters/da-converters/ad9762/products/product.html
footprint RW-28_N (SOIC, 28-Leads, Body 17.9x7.5mm, Pitch 1.27mm, IPC Medium Density)
footprint RW-28_L (SOIC, 28-Leads, Body 17.9x7.5mm, Pitch 1.27mm, IPC High Density)
footprint RW-28_M (SOIC, 28-Leads, Body 17.9x7.5mm, Pitch 1.27mm, IPC Low Density)
pins: 1 DB11 (in) "Most Significant Data Bit (MSB).", 2 DB10 (in) "Data Bit 10", 3 DB9 (in) "Data Bit 9", 4 DB8 (in) "Data Bit 8", 5 DB7 (in) "Data Bit 7", 6 DB6 (in) "Data Bit 6", 7 DB5 (in) "Data Bit 5", 8 DB4 (in) "Data Bit 4", 9 DB3 (in) "Data Bit 3", 10 DB2 (in) "Data Bit 2", 11 DB1 (in) "Data Bit 1", 12 DB0 (in) "Least Significant Data Bit (LSB).", 13 NC "No Internal Connection.", 14 NC "No Internal Connection.", 15 SLEEP (in) "Power-down Control Input. Active High. Contains active pull-down circuit, thus may be left unterminated if not used.", 16 REFLO "Reference Ground when Internal 1.2 V Reference Used. Connect to AVDD to disable internal reference.", 17 REFIO (io) "Reference Input/Output. Serves as reference input when internal reference disabled (i.e., Tie REFLO to AVDD). Serves as 1.2 V reference output when internal reference activated (i.e., Tie REFLO to ACOM). Requires 0.1 uF (See Datasheet)", 18 FS ADJ (in) "Full-Scale Current Output Adjust.", 19 COMP1 "Bandwidth / Noise Reduction Node. Add 0.1 uF to AVDD for optimum performance.", 20 ACOM (power) "Analog Common.", 21 IOUTB (out) "Complementary DAC Current Output. Full-scale current when all data bits are 0s.", 22 IOUTA (out) "DAC Current Output. Full-scale current when all data bits are 1s.", 23 COMP2 "Internal Bias Node for Switch Driver Circuitry. Decouple to ACOM with 0.1 uF capacitor.", 24 AVDD (power) "Analog Supply Voltage (+2.7 V to +5.5 V).", 25 NC "No Internal Connection.", 26 DCOM (power) "Digital Common.", 27 DVDD (power) "Digital Supply Voltage (+2.7 V to +5.5 V).", 28 CLOCK (in) "Clock Input. Data latched on positive edge of clock."

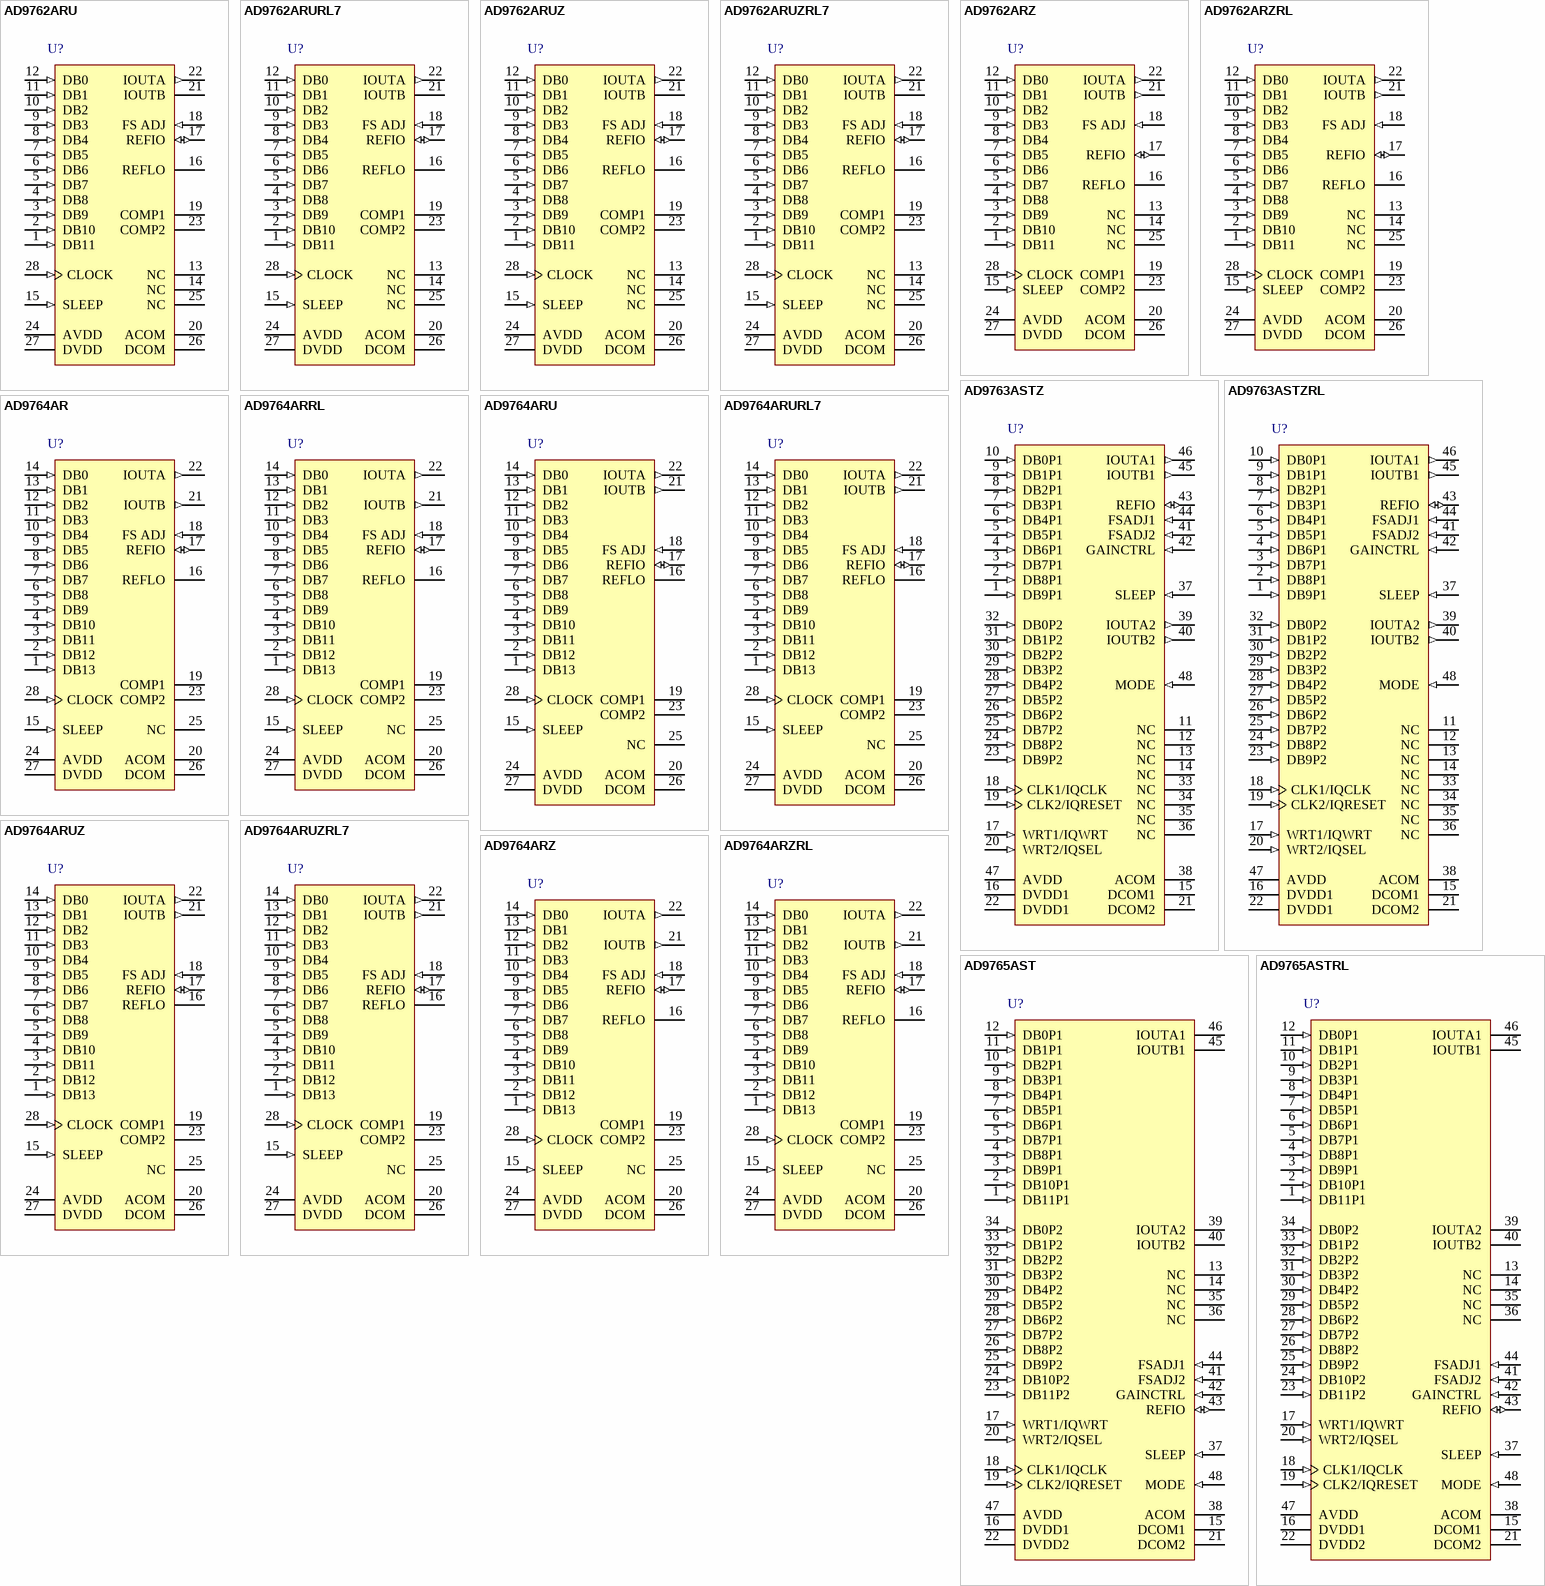
[diagram p99: symbols AD9762ARU to AD9765ASTRL]

## AD9762ARU
designator U?
Single 12-Bit TxDAC, 125 Msps, -40 to +85 degC, RU-28, Tube; Generic Part Number: AD9762; Manufacturer: Analog Devices; PartNumber: AD9762ARU; # DAC Outputs: 1; Max V+: 5.5V; Op Pwr Diss: 160mW; Resolution (Bits): 12; Settling Time: 35ns; Single Supply: Yes; DatasheetVersion: Rev.B; PackageVersion: 2005; PackageReference: RU-28; PackageDescription: 28-Lead Thin Shrink Small Outline Package [TSSOP]; Supplier 1: Digi-Key; Supplier Part Number 1: AD9762ARU-ND; Supplier 2: Mouser; Supplier Part Number 2: 584-AD9762ARU; Packing: Tube; RoHS: N; Mounting Technology: Surface Mount; Code_JEDEC: MO-153-AE; ComponentLink1Description: Manufacturer URL; ComponentLink1URL: http://www.analog.com/en/index.html; ComponentLink2Description: Datasheet; ComponentLink2URL: http://www.analog.com/static/imported-files/data_sheets/AD9762.pdf; ComponentLink3Description: Package Specification; ComponentLink3URL: http://www.analog.com/static/imported-files/packages/249854663RU_28.pdf; ComponentLink4Description: Product URL; ComponentLink4URL: http://www.analog.com/en/digital-to-analog-converters/da-converters/ad9762/products/product.html
footprint RU-28_N (TSOP, 28-Leads, Body 9.7x4.4mm, Pitch 0.65mm, IPC Medium Density)
footprint RU-28_L (TSOP, 28-Leads, Body 9.7x4.4mm, Pitch 0.65mm, IPC High Density)
footprint RU-28_M (TSOP, 28-Leads, Body 9.7x4.4mm, Pitch 0.65mm, IPC Low Density)
pins: 1 DB11 (in) "Most Significant Data Bit (MSB).", 2 DB10 (in) "Data Bit 10", 3 DB9 (in) "Data Bit 9", 4 DB8 (in) "Data Bit 8", 5 DB7 (in) "Data Bit 7", 6 DB6 (in) "Data Bit 6", 7 DB5 (in) "Data Bit 5", 8 DB4 (in) "Data Bit 4", 9 DB3 (in) "Data Bit 3", 10 DB2 (in) "Data Bit 2", 11 DB1 (in) "Data Bit 1", 12 DB0 (in) "Least Significant Data Bit (LSB).", 13 NC "No Internal Connection.", 14 NC "No Internal Connection.", 15 SLEEP (in) "Power-down Control Input. Active High. Contains active pull-down circuit, thus may be left unterminated if not used.", 16 REFLO "Reference Ground when Internal 1.2 V Reference Used. Connect to AVDD to disable internal reference.", 17 REFIO (io) "Reference Input/Output. Serves as reference input when internal reference disabled (i.e., Tie REFLO to AVDD). Serves as 1.2 V reference output when internal reference activated (i.e., Tie REFLO to ACOM). Requires 0.1 uF (See Datasheet)", 18 FS ADJ (in) "Full-Scale Current Output Adjust.", 19 COMP1 "Bandwidth/Noise Reduction Node. Add 0.1 uF to AVDD for optimum performance.", 20 ACOM (power) "Analog Common.", 21 IOUTB "Complementary DAC Current Output. Full-scale current when all data bits are 0s.", 22 IOUTA (out) "DAC Current Output. Full-scale current when all data bits are 1s.", 23 COMP2 "Internal Bias Node for Switch Driver Circuitry. Decouple to ACOM with 0.1 uF capacitor.", 24 AVDD (power) "Analog Supply Voltage (+2.7 V to +5.5 V).", 25 NC "No Internal Connection.", 26 DCOM (power) "Digital Common.", 27 DVDD (power) "Digital Supply Voltage (+2.7 V to +5.5 V).", 28 CLOCK (in) "Clock Input. Data latched on positive edge of clock."

## AD9762ARURL7
designator U?
Single 12-Bit TxDAC, 125 Msps, -40 to +85 degC, RU-28, Reel; Generic Part Number: AD9762; Manufacturer: Analog Devices; PartNumber: AD9762ARURL7; # DAC Outputs: 1; Max V+: 5.5V; Op Pwr Diss: 160mW; Resolution (Bits): 12; Settling Time: 35ns; Single Supply: Yes; DatasheetVersion: Rev.B; PackageVersion: 2005; PackageReference: RU-28; PackageDescription: 28-Lead Thin Shrink Small Outline Package [TSSOP]; Supplier 1: Digi-Key; Supplier Part Number 1: AD9762ARURL7-ND; Supplier 2: Mouser; Supplier Part Number 2: 584-AD9762ARUR7; Packing: Reel; RoHS: N; Mounting Technology: Surface Mount; Code_JEDEC: MO-153-AE; ComponentLink1Description: Manufacturer URL; ComponentLink1URL: http://www.analog.com/en/index.html; ComponentLink2Description: Datasheet; ComponentLink2URL: http://www.analog.com/static/imported-files/data_sheets/AD9762.pdf; ComponentLink3Description: Package Specification; ComponentLink3URL: http://www.analog.com/static/imported-files/packages/249854663RU_28.pdf; ComponentLink4Description: Product URL; ComponentLink4URL: http://www.analog.com/en/digital-to-analog-converters/da-converters/ad9762/products/product.html
footprint RU-28_N (TSOP, 28-Leads, Body 9.7x4.4mm, Pitch 0.65mm, IPC Medium Density)
footprint RU-28_L (TSOP, 28-Leads, Body 9.7x4.4mm, Pitch 0.65mm, IPC High Density)
footprint RU-28_M (TSOP, 28-Leads, Body 9.7x4.4mm, Pitch 0.65mm, IPC Low Density)
pins: 1 DB11 (in) "Most Significant Data Bit (MSB).", 2 DB10 (in) "Data Bit 10", 3 DB9 (in) "Data Bit 9", 4 DB8 (in) "Data Bit 8", 5 DB7 (in) "Data Bit 7", 6 DB6 (in) "Data Bit 6", 7 DB5 (in) "Data Bit 5", 8 DB4 (in) "Data Bit 4", 9 DB3 (in) "Data Bit 3", 10 DB2 (in) "Data Bit 2", 11 DB1 (in) "Data Bit 1", 12 DB0 (in) "Least Significant Data Bit (LSB).", 13 NC "No Internal Connection.", 14 NC "No Internal Connection.", 15 SLEEP (in) "Power-down Control Input. Active High. Contains active pull-down circuit, thus may be left unterminated if not used.", 16 REFLO "Reference Ground when Internal 1.2 V Reference Used. Connect to AVDD to disable internal reference.", 17 REFIO (io) "Reference Input/Output. Serves as reference input when internal reference disabled (i.e., Tie REFLO to AVDD). Serves as 1.2 V reference output when internal reference activated (i.e., Tie REFLO to ACOM). Requires 0.1 uF (See Datasheet)", 18 FS ADJ (in) "Full-Scale Current Output Adjust.", 19 COMP1 "Bandwidth/Noise Reduction Node. Add 0.1 uF to AVDD for optimum performance.", 20 ACOM (power) "Analog Common.", 21 IOUTB "Complementary DAC Current Output. Full-scale current when all data bits are 0s.", 22 IOUTA (out) "DAC Current Output. Full-scale current when all data bits are 1s.", 23 COMP2 "Internal Bias Node for Switch Driver Circuitry. Decouple to ACOM with 0.1 uF capacitor.", 24 AVDD (power) "Analog Supply Voltage (+2.7 V to +5.5 V).", 25 NC "No Internal Connection.", 26 DCOM (power) "Digital Common.", 27 DVDD (power) "Digital Supply Voltage (+2.7 V to +5.5 V).", 28 CLOCK (in) "Clock Input. Data latched on positive edge of clock."

## AD9762ARUZ
designator U?
Single 12-Bit TxDAC, 125 Msps, -40 to +85 degC, RU-28, Pb-Free, Tube; Generic Part Number: AD9762; Manufacturer: Analog Devices; PartNumber: AD9762ARUZ; # DAC Outputs: 1; Max V+: 5.5V; Op Pwr Diss: 160mW; Resolution (Bits): 12; Settling Time: 35ns; Single Supply: Yes; DatasheetVersion: Rev.B; PackageVersion: 2005; PackageReference: RU-28; PackageDescription: 28-Lead Thin Shrink Small Outline Package [TSSOP]; Supplier 1: Digi-Key; Supplier Part Number 1: AD9762ARUZ-ND; Supplier 2: Farnell; Supplier Part Number 2: 1307247; Supplier 3: Newark; Supplier Part Number 3: 59K7399; Supplier 4: Mouser; Supplier Part Number 4: 584-AD9762ARUZ; Packing: Tube; RoHS: Y; Mounting Technology: Surface Mount; Code_JEDEC: MO-153-AE; ComponentLink1Description: Manufacturer URL; ComponentLink1URL: http://www.analog.com/en/index.html; ComponentLink2Description: Datasheet; ComponentLink2URL: http://www.analog.com/static/imported-files/data_sheets/AD9762.pdf; ComponentLink3Description: Package Specification; ComponentLink3URL: http://www.analog.com/static/imported-files/packages/249854663RU_28.pdf; ComponentLink4Description: Product URL; ComponentLink4URL: http://www.analog.com/en/digital-to-analog-converters/da-converters/ad9762/products/product.html
footprint RU-28_N (TSOP, 28-Leads, Body 9.7x4.4mm, Pitch 0.65mm, IPC Medium Density)
footprint RU-28_L (TSOP, 28-Leads, Body 9.7x4.4mm, Pitch 0.65mm, IPC High Density)
footprint RU-28_M (TSOP, 28-Leads, Body 9.7x4.4mm, Pitch 0.65mm, IPC Low Density)
pins: 1 DB11 (in) "Most Significant Data Bit (MSB).", 2 DB10 (in) "Data Bit 10", 3 DB9 (in) "Data Bit 9", 4 DB8 (in) "Data Bit 8", 5 DB7 (in) "Data Bit 7", 6 DB6 (in) "Data Bit 6", 7 DB5 (in) "Data Bit 5", 8 DB4 (in) "Data Bit 4", 9 DB3 (in) "Data Bit 3", 10 DB2 (in) "Data Bit 2", 11 DB1 (in) "Data Bit 1", 12 DB0 (in) "Least Significant Data Bit (LSB).", 13 NC "No Internal Connection.", 14 NC "No Internal Connection.", 15 SLEEP (in) "Power-down Control Input. Active High. Contains active pull-down circuit, thus may be left unterminated if not used.", 16 REFLO "Reference Ground when Internal 1.2 V Reference Used. Connect to AVDD to disable internal reference.", 17 REFIO (io) "Reference Input/Output. Serves as reference input when internal reference disabled (i.e., Tie REFLO to AVDD). Serves as 1.2 V reference output when internal reference activated (i.e., Tie REFLO to ACOM). Requires 0.1 uF (See Datasheet)", 18 FS ADJ (in) "Full-Scale Current Output Adjust.", 19 COMP1 "Bandwidth/Noise Reduction Node. Add 0.1 uF to AVDD for optimum performance.", 20 ACOM (power) "Analog Common.", 21 IOUTB "Complementary DAC Current Output. Full-scale current when all data bits are 0s.", 22 IOUTA (out) "DAC Current Output. Full-scale current when all data bits are 1s.", 23 COMP2 "Internal Bias Node for Switch Driver Circuitry. Decouple to ACOM with 0.1 uF capacitor.", 24 AVDD (power) "Analog Supply Voltage (+2.7 V to +5.5 V).", 25 NC "No Internal Connection.", 26 DCOM (power) "Digital Common.", 27 DVDD (power) "Digital Supply Voltage (+2.7 V to +5.5 V).", 28 CLOCK (in) "Clock Input. Data latched on positive edge of clock."